# Altium footprint library PCBLIB2.PcbLib: 37 footprints (part 2 of 3)
Each footprint in its own frame and in the unit in brackets; x right, y up, seen from the top. Pads: shape width x height; smd on the part's side, far side on the other; paste and mask are expansions set on the pad; w line width, h text height; cw(c..) or ccw(c..) is an arc to the next point about the centre after c.
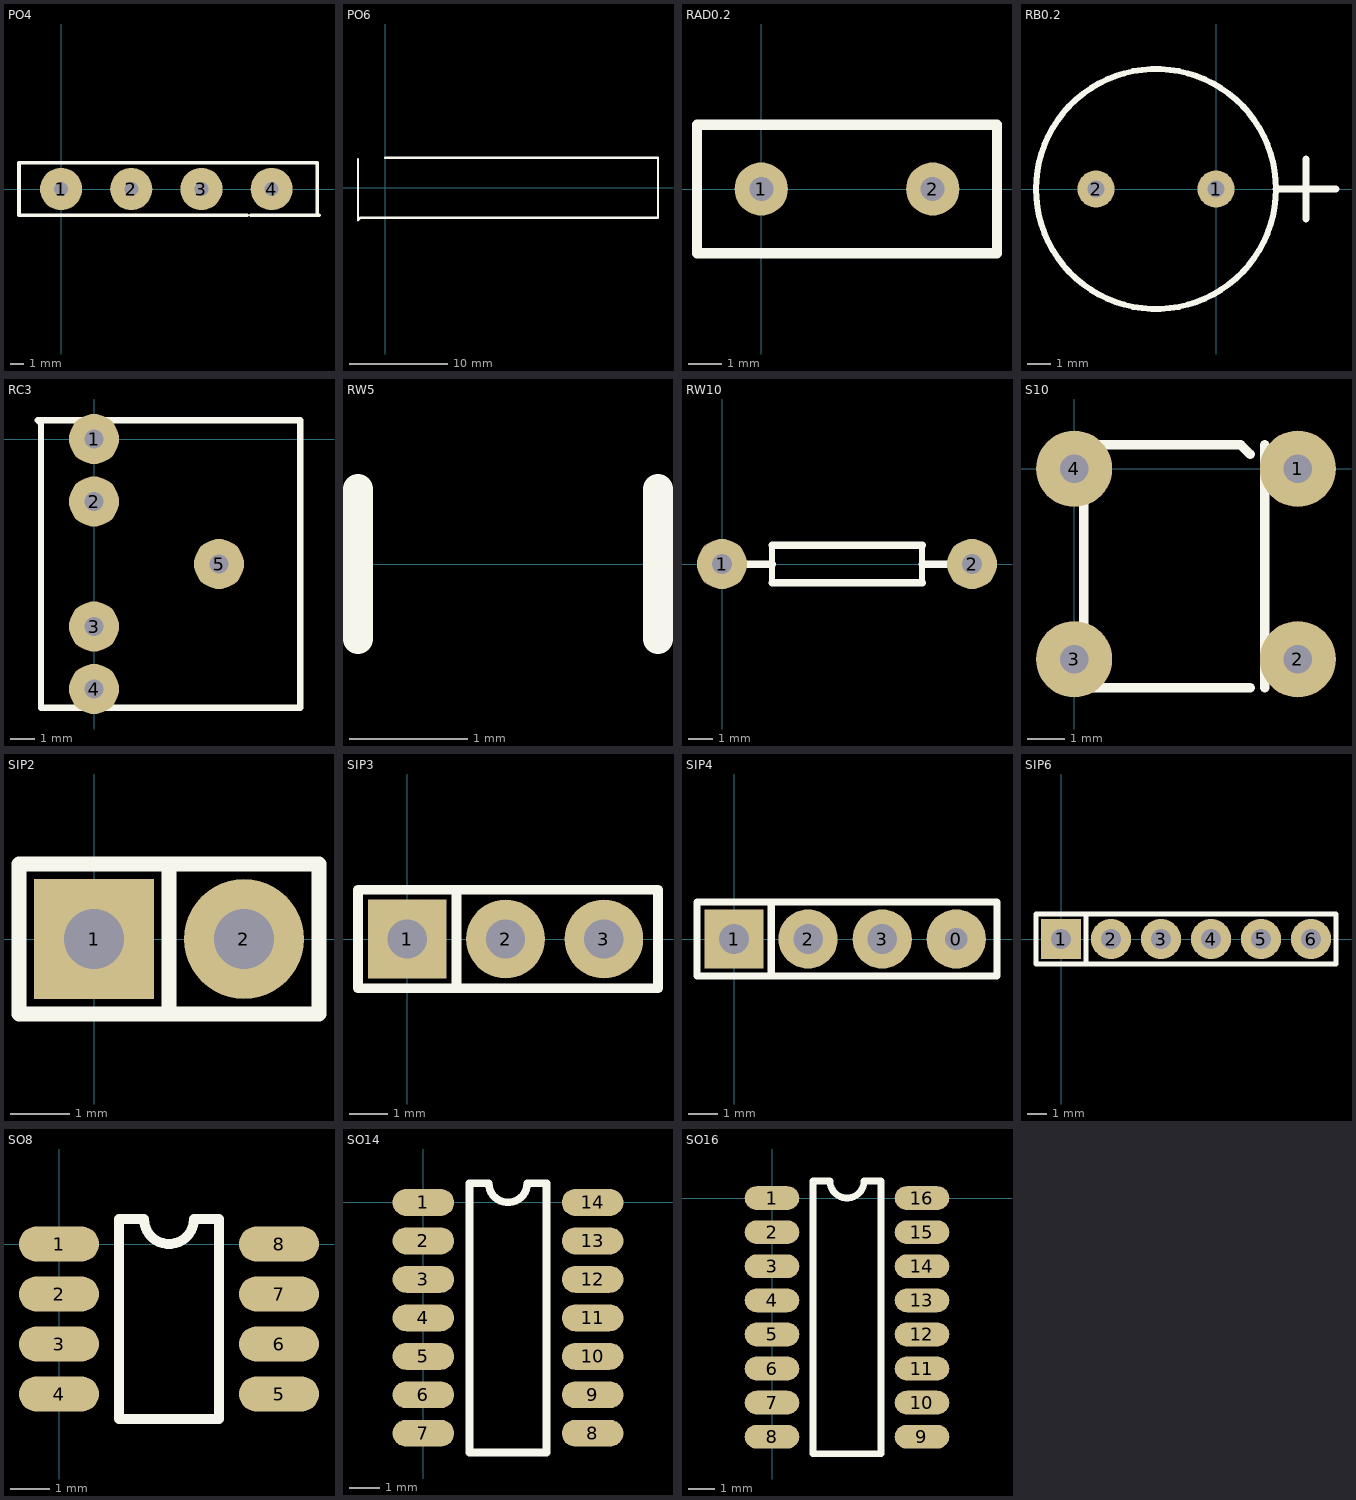
[diagram p1: the footprints below, top view; thin cyan lines are the x and y axes]

## PO4 [mil]
pads (4):
  round 120 hole 40: 1(0,0) 2(200,0) 3(400,0) 4(600,0)
TopOverlay:
  lines w10: -120,-75 530,-75 ; -120,-70 -120,75 540,75 730,75 730,-70 ; 540,-75 735,-75

## PO6 [mil]
TopOverlay:
  lines w10: -110,115 -110,-130 -100,-120 1095,-120 1095,120 0,120

## PO8 [mil]
TopOverlay:
  lines w-111142.5: -111142.5,-133372.32 0,0
  lines w10: -100,0 -100,120

## RAD0.2 [mil]
pads (2):
  round 62 hole 28: 1(0,0) 2(200,0)
TopOverlay:
  lines w12: -75,-75 275,-75 275,75 -75,75 -75,-75

## RB0.2 [mil]
pads (2):
  round 62 hole 28: 1(0,0) 2(-200,0)
TopOverlay:
  circle w10: c-100,0 r200
  lines w12: 100,0 200,0 ; 150,-50 150,50

## RC3 [mil]
pads (5):
  round 80 hole 30: 1(0,0) 2(0,-100) 3(0,-300) 4(0,-400) 5(200,-200)
TopOverlay:
  lines w10: -90,30 330,30 330,-430 -85,-430 -85,25 -90,30

## RW5 [mil]
TopOverlay:
  lines w10: 50,-25 50,25 ; 150,-25 150,25

## RW10 [mil]
pads (2):
  round 80 hole 32: 1(0,0) 2(400,0)
TopOverlay:
  lines w10: 80,-30 80,30 ; 320,-30 320,30
  lines w12: 40,0 80,0 ; 80,-30 320,-30 ; 80,30 320,30 ; 320,0 360,0

## S10 [mil]
pads (4):
  round 80 hole 30: 1(235,0) 2(235,-200) 3(0,-200) 4(0,0)
TopOverlay:
  lines w10: 185,-230 10,-230 10,25 175,25 185,15 ; 200,-230 200,25

## SIP2 [mil]
pads (2):
  rect 80x80 hole 40: 1(0,0)
  round 80 hole 40: 2(100,0)
TopOverlay:
  lines w10: 50,-50 50,50 ; -50,-50 -50,50 150,50 150,-50 -50,-50

## SIP3 [mil]
pads (3):
  rect 80x80 hole 40: 1(0,0)
  round 80 hole 40: 2(100,0) 3(200,0)
TopOverlay:
  lines w10: 50,-50 50,50 ; -50,-50 -50,50 255,50 255,-50 -50,-50

## SIP4 [mil]
pads (4):
  round 80 hole 30: 0(300,0)
  rect 80x80 hole 40: 1(0,0)
  round 80 hole 40: 2(100,0) 3(200,0)
TopOverlay:
  lines w10: 50,-50 50,50 ; -50,-50 255,-50 355,-50 355,50 340,50 255,50 -50,50 -50,-50

## SIP6 [mil]
pads (6):
  rect 80x80 hole 40: 1(0,0)
  round 80 hole 40: 2(100,0) 3(200,0) 4(300,0) 5(400,0) 6(500,0)
TopOverlay:
  lines w10: 50,-50 50,50 ; -50,-50 -50,50 550,50 550,-50 -50,-50

## SO8 [mil]
pads (8):
  oval 80x35 smd: 1(0,0) 2(0,-50) 3(0,-100) 4(0,-150) 5(220,-150) 6(220,-100) 7(220,-50) 8(220,0)
TopOverlay:
  lines w10: 60,-175 60,25 85,25 ccw(c110,25) 135,25 160,25 160,-175 60,-175

## SO14 [mil]
pads (14):
  oval 80x35 smd: 1(0,0) 2(0,-50) 3(0,-100) 4(0,-150) 5(0,-200) 6(0,-250) 7(0,-300) 8(220,-300) 9(220,-250) 10(220,-200) 11(220,-150) 12(220,-100) 13(220,-50) 14(220,0)
TopOverlay:
  lines w10: 60,-325 160,-325 160,25 135,25 cw(c110,25) 85,25 60,25 60,-325

## SO16 [mil]
pads (16):
  oval 80x35 smd: 1(0,0) 2(0,-50) 3(0,-100) 4(0,-150) 5(0,-200) 6(0,-250) 7(0,-300) 8(0,-350) 9(220,-350) 10(220,-300) 11(220,-250) 12(220,-200) 13(220,-150) 14(220,-100) 15(220,-50) 16(220,0)
TopOverlay:
  lines w10: 60,-375 60,25 85,25 ccw(c110,25) 135,25 160,25 160,-375 60,-375